# Altium footprint library 超声波接近电路.PcbLib: 18 footprints (part 1 of 2)
Each footprint in its own frame and in the unit in brackets; x right, y up, seen from the top. Pads: shape width x height; smd on the part's side, far side on the other; paste and mask are expansions set on the pad; w line width, h text height; cw(c..) or ccw(c..) is an arc to the next point about the centre after c.
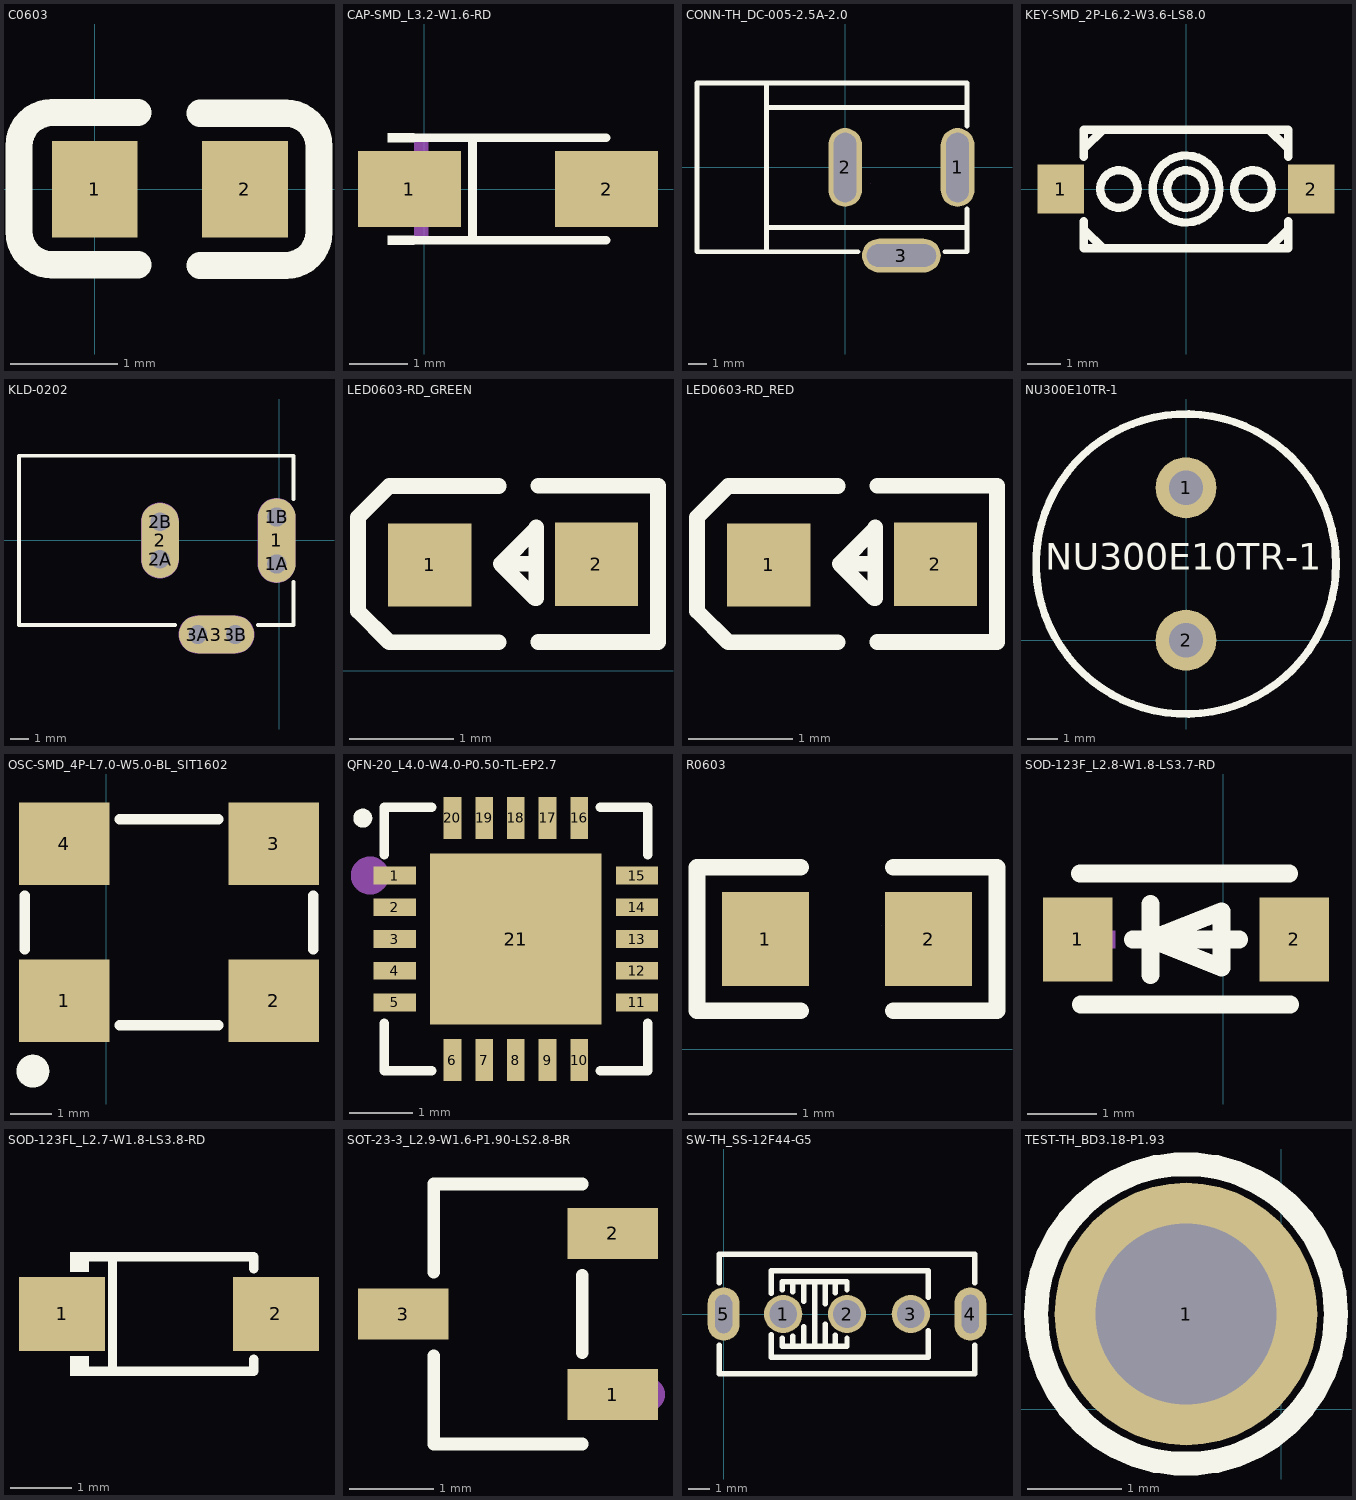
[diagram p0: the footprints below, top view; thin cyan lines are the x and y axes]

## C0603 [mm]
pads (2):
  rect 0.8x0.9 smd: 1(0,0) 2(1.4,0)
Top Overlay:
  lines w0.254: 0.404,-0.704 -0.396,-0.704 cw(c-0.396,-0.394) -0.706,-0.394 -0.706,0.406 cw(c-0.396,0.406) -0.396,0.715 0.404,0.715 ; 0.98,-0.71 1.78,-0.71 ccw(c1.78,-0.4) 2.09,-0.4 2.09,0.4 ccw(c1.78,0.4) 1.78,0.71 0.98,0.71
Mechanical 15:
  lines w0.003: 1.009,0.129 1.01,0.13

## CAP-SMD_L3.2-W1.6-RD [mil]
pads (2):
  rect 69.19x51.02 smd: 1(-10,0) 2(122.78,0)
Top Overlay:
  region: -6.6,37.5 -6.6,31.51 -24.6,31.51 -24.6,37.5
  region: -6.6,-37.5 -6.6,-31.51 -24.6,-31.51 -24.6,-37.5
  lines w6: -9.6,-34.5 122.38,-34.5 ; -9.6,34.5 122.38,34.5 ; 32.6,-34.5 32.6,34.5
Mechanical 15:
  region: -6.6,-31.5 -6.6,-15.75 2.85,-15.75 2.85,-31.5
  region: -6.6,31.5 -6.6,15.75 2.85,15.75 2.85,31.5
  region: 5.21,15.75 5.21,-15.75 9.93,-15.75 9.93,15.75
  region: -1.88,2.36 -1.88,-2.36 17.02,-2.36 17.02,2.36
  region: 114.66,2.36 114.66,-2.36 95.76,-2.36 95.76,2.36

## CONN-TH_DC-005-2.5A-2.0 [mm]
pads (3):
  oval 1.8x4.2 hole 1.2 slot 3.7 at 90 deg: 1(5.999,0) 2(0,0)
  oval 4.2x1.8 hole 1.2 slot 3.7 at 0 deg: 3(3,-4.7)
Top Overlay:
  lines w0.254: -4.2,-4.5 -4.2,4.5 ; -4.12,-3.2 6.5,-3.2 ; -4.12,3.2 6.5,3.2 ; 0.687,-4.5 -7.9,-4.5 -7.9,4.5 6.5,4.5 6.5,2.214 ; 5.313,-4.5 6.5,-4.5 6.5,-2.214
Mechanical 15:
  lines w0.003: 1.371,-0.835 1.372,-0.834

## KEY-SMD_2P-L6.2-W3.6-LS8.0 [mm]
pads (2):
  rect 1.4x1.5 smd: 1(-3.8,0) 2(3.8,0)
Top Overlay:
  circle w0.254: c-2.032,0 r0.568
  circle w0.254: c2.032,0 r0.568
  circle w0.254: c0,0 r1.016
  circle w0.254: c0,0 r0.568
  lines w0.254: -3.1,-0.981 -3.1,-1.8 3.1,-1.8 3.1,-0.981 ; -3.1,0.981 -3.1,1.8 3.1,1.8 3.1,0.981 ; -3.048,-1.27 -2.54,-1.778 ; -3.048,1.27 -2.54,1.778 ; 2.54,-1.778 3.048,-1.27 ; 2.54,1.778 3.048,1.27

## KLD-0202 [mm]
pads (9):
  oval 2x4.5 all layers, no hole: 1(-0.127,0)
  round 1.5 hole 1 slot 1.005 at 0 deg: 1A(-0.127,-1.25) 1B(-0.127,1.25)
  oval 2x4 all layers, no hole: 2(-6.327,0)
  round 1.5 hole 1: 2A(-6.327,-1) 2B(-6.327,1) 3A(-4.327,-5) 3B(-2.327,-5)
  oval 4x2 all layers, no hole: 3(-3.327,-5)
Top Overlay:
  lines w0.2: -5.527,-4.5 -13.827,-4.5 -13.827,4.5 0.773,4.5 0.773,2.2 ; -1.127,-4.5 0.773,-4.5 0.773,-2.2
Mechanical 1:
  lines w1: -6.327,-1 -6.327,1 ; -4.327,-5 -2.327,-5 ; -0.127,-1.25 -0.127,1.25
  lines w2.016: -6.327,-1 -6.327,1 ; -4.327,-5 -2.327,-5 ; -0.127,-1.25 -0.127,1.25
Mechanical 15:
  lines w0.003: -5.825,0.556 -5.824,0.556

## LED0603-RD_GREEN [mm]
pads (2):
  rect 0.8x0.8 smd: 1(1.016,1.016) 2(2.615,1.023)
Top Overlay:
  lines w0.15: 1.676,0.274 0.626,0.274 0.326,0.574 0.326,0.674 0.326,1.374 0.326,1.474 0.626,1.774 1.676,1.774 ; 2.036,1.026 1.696,1.026 ; 2.056,0.276 3.206,0.276 ; 2.056,1.776 3.206,1.776 3.206,0.296 ; 1.696,1.026 2.036,1.366 2.036,1.376 2.036,0.696 2.026,0.696 1.696,1.026
Mechanical 15:
  region: 0.745,1.081 1.285,1.081 1.285,0.951 0.745,0.951
  region: 2.55,0.752 2.55,1.292 2.68,1.292 2.68,0.752
  region: 2.344,1.088 2.884,1.088 2.884,0.958 2.344,0.958

## LED0603-RD_RED [mm]
pads (2):
  rect 0.8x0.8 smd: 1(1.016,2.921) 2(2.615,2.928)
Top Overlay:
  lines w0.15: 1.676,2.179 0.626,2.179 0.326,2.479 0.326,2.579 0.326,3.279 0.326,3.379 0.626,3.679 1.676,3.679 ; 2.036,2.931 1.696,2.931 ; 2.056,2.181 3.206,2.181 ; 2.056,3.681 3.206,3.681 3.206,2.201 ; 1.696,2.931 2.036,3.271 2.036,3.281 2.036,2.601 2.026,2.601 1.696,2.931
Mechanical 15:
  region: 0.745,2.986 1.285,2.986 1.285,2.856 0.745,2.856
  region: 2.55,2.657 2.55,3.197 2.68,3.197 2.68,2.657
  region: 2.344,2.993 2.884,2.993 2.884,2.863 2.344,2.863

## NU300E10TR-1 [mil]
pads (2):
  round 80 hole 45: 1(0,200) 2(0,0)
Top Overlay:
  circle w10: c0,100 r196.85
  text "NU300E10TR-1" at -185,80.89 h60

## OSC-SMD_4P-L7.0-W5.0-BL_SIT1602 [mm]
pads (4):
  rect 2.2x2 smd: 1(-1.016,4.953) 2(4.064,4.953) 3(4.064,8.763) 4(-1.016,8.763)
Top Overlay:
  lines w0.254: -1.976,6.208 -1.976,7.508 ; 0.324,4.358 2.724,4.358 ; 0.324,9.358 2.724,9.358 ; 5.024,6.208 5.024,7.508
  lines w0.4: -1.781,3.048 cw(c-1.779,3.248) -1.778,3.048
Mechanical 15:
  circle w0.4: c-1.27,4.445 r0.2
  region: -1.27,8.128 -1.27,9.271 -1.143,9.271 -1.016,9.271 -1.016,8.128
  region: -1.714,8.826 -0.572,8.826 -0.572,8.7 -0.572,8.572 -1.714,8.572
  region: 3.492,4.953 4.635,4.953 4.635,4.826 4.635,4.699 3.492,4.699

## QFN-20_L4.0-W4.0-P0.50-TL-EP2.7 [mm]
pads (21):
  rect 0.665x0.28 smd: 1(1227.62,1232.18) 2(1227.62,1231.68) 3(1227.62,1231.18) 4(1227.62,1230.68) 5(1227.62,1230.18) 11(1231.435,1230.18) 12(1231.435,1230.68) 13(1231.435,1231.18) 14(1231.435,1231.68) 15(1231.435,1232.18)
  rect 0.28x0.665 smd: 6(1228.527,1229.273) 7(1229.027,1229.273) 8(1229.527,1229.273) 9(1230.027,1229.273) 10(1230.527,1229.273) 16(1230.527,1233.088) 17(1230.027,1233.088) 18(1229.527,1233.088) 19(1229.027,1233.088) 20(1228.527,1233.088)
  rect 2.7x2.7 smd: 21(1229.527,1231.18)
Top Overlay:
  circle w0.15: c1227.114,1233.085 r0.075
  lines w0.152: 1227.451,1229.85 1227.451,1229.104 1228.197,1229.104 ; 1227.451,1232.511 1227.451,1233.256 1228.197,1233.256 ; 1230.858,1229.104 1231.603,1229.104 1231.603,1229.85 ; 1230.858,1233.256 1231.603,1233.256 1231.603,1232.511
Top Paste:
  region: 1228.447,1232.26 1230.607,1232.26 1230.607,1230.1 1228.447,1230.1
  region: 1228.667,1232.755 1228.667,1233.42 1228.387,1233.42 1228.387,1232.755
  region: 1230.387,1233.42 1230.387,1232.755 1230.667,1232.755 1230.667,1233.42
  region: 1229.167,1232.755 1229.167,1233.42 1228.887,1233.42 1228.887,1232.755
  region: 1229.667,1232.755 1229.667,1233.42 1229.387,1233.42 1229.387,1232.755
  region: 1230.167,1232.755 1230.167,1233.42 1229.887,1233.42 1229.887,1232.755
  region: 1227.287,1232.32 1227.287,1232.04 1227.952,1232.04 1227.952,1232.32
  region: 1231.767,1232.04 1231.767,1232.32 1231.102,1232.32 1231.102,1232.04
  region: 1227.952,1231.54 1227.952,1231.82 1227.287,1231.82 1227.287,1231.54
  region: 1231.767,1231.54 1231.767,1231.82 1231.102,1231.82 1231.102,1231.54
  region: 1227.287,1231.32 1227.287,1231.04 1227.952,1231.04 1227.952,1231.32
  region: 1231.767,1231.04 1231.767,1231.32 1231.102,1231.32 1231.102,1231.04
  region: 1227.287,1230.82 1227.287,1230.54 1227.952,1230.54 1227.952,1230.82
  region: 1231.767,1230.54 1231.767,1230.82 1231.102,1230.82 1231.102,1230.54
  region: 1227.287,1230.32 1227.287,1230.04 1227.952,1230.04 1227.952,1230.32
  region: 1231.767,1230.04 1231.767,1230.32 1231.102,1230.32 1231.102,1230.04
  region: 1228.387,1229.605 1228.387,1228.94 1228.667,1228.94 1228.667,1229.605
  region: 1229.887,1229.605 1229.887,1228.94 1230.167,1228.94 1230.167,1229.605
  region: 1228.887,1229.605 1228.887,1228.94 1229.167,1228.94 1229.167,1229.605
  region: 1229.387,1229.605 1229.387,1228.94 1229.667,1228.94 1229.667,1229.605
  region: 1230.387,1229.605 1230.387,1228.94 1230.667,1228.94 1230.667,1229.605
Mechanical 15:
  circle w0.3: c1227.227,1232.18 r0.15

## R0603 [mil]
pads (2):
  rect 31.75x34.02 smd: 1(115,40) 2(174.31,40)
Top Overlay:
  lines w6: 127.88,13.99 90.12,13.99 90.12,66.01 127.88,66.01 ; 161.44,13.99 199.19,13.99 199.19,66.01 161.44,66.01
Top Paste:
  region: 130.68,55.75 130.68,46.77 115.72,46.77 115.72,33.78 130.68,33.78 130.68,24.25 128.71,22.28 97.61,22.28 95.64,24.25 95.64,55.75 97.61,57.72 128.71,57.72
  region: 191.7,57.72 160.21,57.72 158.24,55.75 158.24,46.77 172.81,46.77 172.81,33.78 158.24,33.78 158.24,24.25 160.21,22.28 191.7,22.28 193.67,24.25 193.67,55.75
Mechanical 15:
  lines w0.1: 157.15,44.99 157.16,45.01

## SOD-123F_L2.8-W1.8-LS3.7-RD [mm]
pads (2):
  rect 1x1.2 smd: 1(-2.084,4.953) 2(1.016,4.953)
Top Overlay:
  lines w0.254: -2.054,5.9 0.946,5.9 ; -2.041,4.02 0.959,4.02 ; -1.296,4.953 0.228,4.953 ; -1.042,4.445 -1.042,5.461 ; -1.042,4.953 -0.026,5.359 -0.026,4.547 -1.042,4.953
Mechanical 15:
  region: 0.609,5.08 1.498,5.08 1.498,4.826 0.609,4.826
  region: 0.937,4.517 0.937,5.406 1.191,5.406 1.191,4.517
  region: -2.439,5.08 -1.55,5.08 -1.55,4.826 -2.439,4.826

## SOD-123FL_L2.7-W1.8-LS3.8-RD [mm]
pads (2):
  rect 1.4x1.2 smd: 1(-131.486,-93.747) 2(-128.017,-93.747)
Top Overlay:
  region: -131.052,-94.749 -131.052,-94.429 -131.356,-94.429 -131.356,-94.749
  region: -131.052,-92.744 -131.052,-93.064 -131.356,-93.064 -131.356,-92.744
  lines w0.152: -131.128,-94.673 -128.375,-94.673 -128.375,-94.48 ; -131.128,-92.82 -128.375,-92.82 -128.375,-93.013 ; -130.668,-94.623 -130.668,-92.87
Mechanical 15:
  region: -128.004,-94.131 -128.197,-94.131 -128.197,-93.363 -128.004,-93.363
  region: -127.717,-93.651 -127.717,-93.843 -128.485,-93.843 -128.485,-93.651
  region: -131.784,-93.62 -131.784,-93.812 -131.016,-93.812 -131.016,-93.62

## SOT-23-3_L2.9-W1.6-P1.90-LS2.8-BR [mm]
pads (3):
  rect 1.07x0.6 smd: 1(712.019,1269.025) 2(712.019,1270.925) 3(709.549,1269.975)
Top Overlay:
  lines w0.152: 709.908,1269.48 709.908,1268.438 711.66,1268.438 ; 709.908,1270.469 709.908,1271.511 711.66,1271.511 ; 711.66,1269.519 711.66,1270.43
Mechanical 15:
  circle w0.2: c712.435,1269.025 r0.1

## SW-TH_SS-12F44-G5 [mm]
pads (5):
  round 1.8 hole 1.3: 1(2.8,0) 2(5.8,0) 3(8.8,0)
  oval 1.5x2.5 hole 0.8 slot 1.8 at 90 deg: 4(11.6,0) 5(0,0)
Top Overlay:
  lines w0.254: -0.2,-1.46 -0.2,-2.8 11.8,-2.8 11.8,-1.46 ; -0.2,1.46 -0.2,2.8 11.8,2.8 11.8,1.46 ; 2.244,-0.985 2.244,-2.032 9.61,-2.032 9.61,-0.788 ; 2.244,0.985 2.244,2.032 9.61,2.032 9.61,0.788 ; 2.752,-1.13 2.752,-1.524 5.8,-1.524 5.8,-1.131 ; 2.752,1.13 2.752,1.524 5.8,1.524 5.8,1.131 ; 3.251,-1.524 3.251,-1.037 ; 3.251,1.037 3.251,1.524 ; 3.759,-1.524 3.759,-0.598 ; 3.759,0.598 3.759,1.524 ; 4.276,-1.524 4.276,1.524 ; 4.775,-1.524 4.775,-0.474 ; 4.775,0.474 4.775,1.524 ; 5.257,-1.524 5.257,-0.992 ; 5.257,0.992 5.257,1.524
Mechanical 15:
  lines w0.003: 6.879,0.127 6.88,0.127

## TEST-TH_BD3.18-P1.93 [mm]
pads (1):
  round 2.8 hole 1.93: 1(-1.016,1.016)
Top Overlay:
  circle w0.254: c-1.016,1.016 r1.6
Mechanical 15:
  lines w0.003: 0.246,1.143 0.247,1.143